# EAGLE library part USB2523B (library custom)
Microchip's USB251xB is a family of versatile, cost-effective, and power-efficient USB 2.0 hub controllers. Leveraging Microchip's innovative MultiTRAK™ technology that delivers industry-leading data throughput in mixed-speed USB environments, the USB251xB family is a USB port expansion solution for applications that demand ultra low power and a small footprint without compromising on performance. Well-suited for consumer and mobile applications, all members of the USB251xB family are available in a space-saving package. The common 36-pin package shared among the 2/3/4 port hub controllers measures only 6x6 mm and provides an ultra small footprint for space-constrained designs while allowing scalable port expansion from two to four ports. Over 30 programmable features including Microchip's unique PortMap, PortSwap, and PHYBoost are designed to aid system designers in simplifying PCB layout and optimizing bill-of-material cost. Every downstream port of the USB251xB hubs can be enabled to support USB Battery Charging 1.1 specification as a Charging Downstream Port (CDP). A CDP provides universal battery charging capability to a compliant mobile phone or portable electronic device using a standard USB port. The USB251xB supports an extended operating temperature range of 0° to 85°C. The USB251xBi is designed to meet -40° to 85°C industrial temperature requirements.
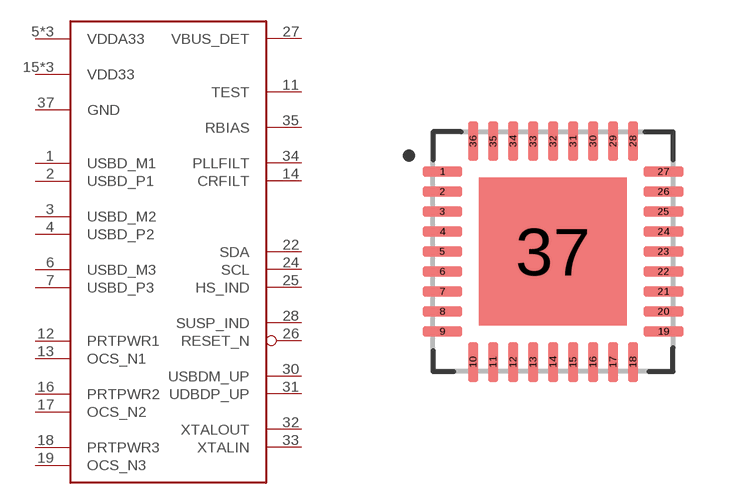
[diagram p11: symbol with the pads of QFN37P50_600X600X100L62X24T370N; footprint QFN37P50_600X600X100L62X24T370N]

Designator prefix -

## USB2523B  [QFN37P50_600X600X100L62X24T370N]
1  USBD_M1
2  USBD_P1
3  USBD_M2
4  USBD_P2
5  VDDA33  pwr
6  USBD_M3
7  USBD_P3
10  VDDA33  pwr
11  TEST
12  PRTPWR1
13  OCS_N1
14  CRFILT
15  VDD33  pwr
16  PRTPWR2
17  OCS_N2
18  PRTPWR3
19  OCS_N3
22  SDA
23  VDD33  pwr
24  SCL
25  HS_IND
26  RESET_N
27  VBUS_DET
28  SUSP_IND
29  VDD33  pwr
30  USBDM_UP
31  UDBDP_UP
32  XTALOUT
33  XTALIN
34  PLLFILT
35  RBIAS
36  VDDA33  pwr
37  GND  pwr

## Footprint QFN37P50_600X600X100L62X24T370N (pad centres in mm)
smd 1 x 0.26: 1 -2.765,2; 2 -2.765,1.5; 3 -2.765,1; 4 -2.765,0.5; 5 -2.765,0; 6 -2.765,-0.5; 7 -2.765,-1; 8 -2.765,-1.5; 9 -2.765,-2; 19 2.765,-2; 20 2.765,-1.5; 21 2.765,-1; 22 2.765,-0.5; 23 2.765,0; 24 2.765,0.5; 25 2.765,1; 26 2.765,1.5; 27 2.765,2
smd 0.26 x 1: 10 -2,-2.765; 11 -1.5,-2.765; 12 -1,-2.765; 13 -0.5,-2.765; 14 0,-2.765; 15 0.5,-2.765; 16 1,-2.765; 17 1.5,-2.765; 18 2,-2.765; 28 2,2.765; 29 1.5,2.765; 30 1,2.765; 31 0.5,2.765; 32 0,2.765; 33 -0.5,2.765; 34 -1,2.765; 35 -1.5,2.765; 36 -2,2.765
smd 3.7 x 3.7: 37 0,0